# Altium schematic symbol library RES-SMD.SchLib: 1 symbol
Pins are listed as number, name and electrical type; pins without a type are passive.

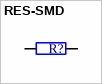
[diagram p0: symbol RES-SMD]

## RES-SMD
designator R?  (value not drawn)
Resistor
pins: 1, 2